# EAGLE library part AMC1200SDUB (library power_supplies)
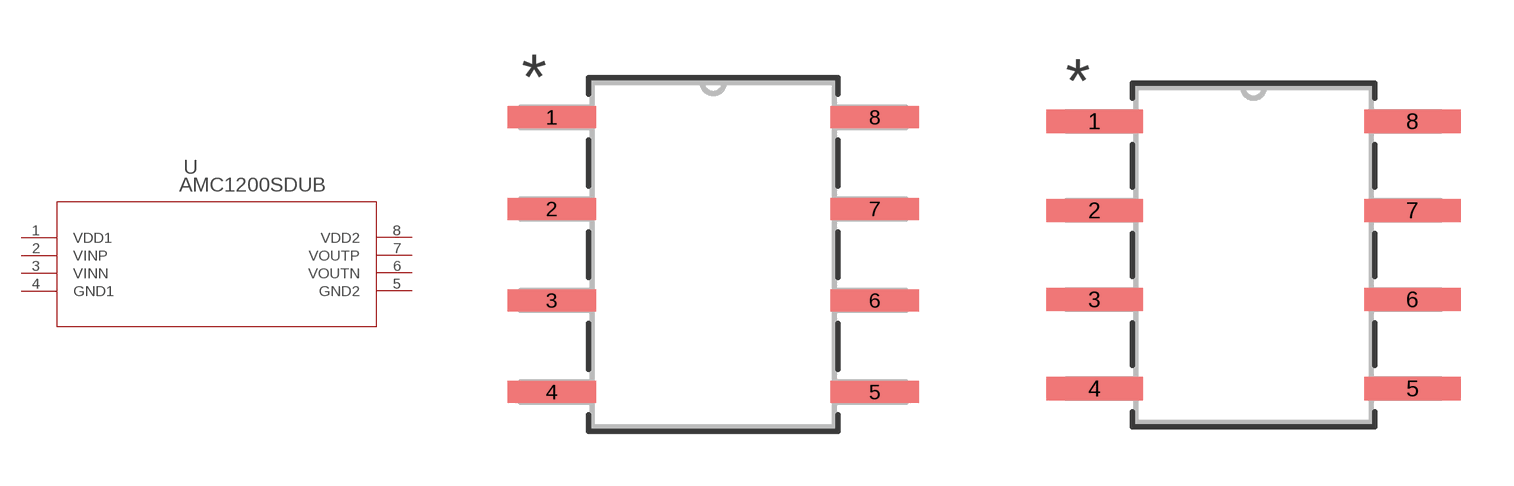
[diagram p4: symbol with the pads of DUB8; footprints DUB8, DUB8-M]

Designator prefix U

## AMC1200SDUB (DESCRIPTION: IC OPAMP ISOLATION 100KHZ 8SOP; MANUFACTURER: Texas Instruments; MPN: AMC1200SDUB)  [DUB8]
1  VDD1  pwr
2  VINP  in
3  VINN  in
4  GND1  pwr
5  GND2  pwr
6  VOUTN  out
7  VOUTP  out
8  VDD2  pwr

## AMC1200SDUBDUB8-M (MANUFACTURER_PART_NUMBER: AMC1200SDUB; VENDOR: Texas Instruments)  [DUB8-M]
Pads as for DUB8

## AMC1200SDUBDUB8-L (MANUFACTURER_PART_NUMBER: AMC1200SDUB; VENDOR: Texas Instruments)  [DUB8-L]
Pads as for DUB8

## Footprint DUB8 (pad centres in mm)
smd 2.451 x 0.61: 1 -4.477,3.81; 2 -4.477,1.27; 3 -4.477,-1.27; 4 -4.477,-3.81; 5 4.477,-3.81; 6 4.477,-1.27; 7 4.477,1.27; 8 4.477,3.81

## Footprint DUB8-M (pad centres in mm)
smd 2.756 x 0.66: 1 -4.528,3.81; 2 -4.528,1.27; 3 -4.528,-1.27; 4 -4.528,-3.81; 5 4.528,-3.81; 6 4.528,-1.27; 7 4.528,1.27; 8 4.528,3.81

## Footprint DUB8-L (pad centres in mm)
smd 2.146 x 0.559: 1 -4.426,3.81; 2 -4.426,1.27; 3 -4.426,-1.27; 4 -4.426,-3.81; 5 4.426,-3.81; 6 4.426,-1.27; 7 4.426,1.27; 8 4.426,3.81